# Altium schematic symbol library SuperLib.SchLib: 28 symbols
Pins are listed as number, name and electrical type; pins without a type are passive.

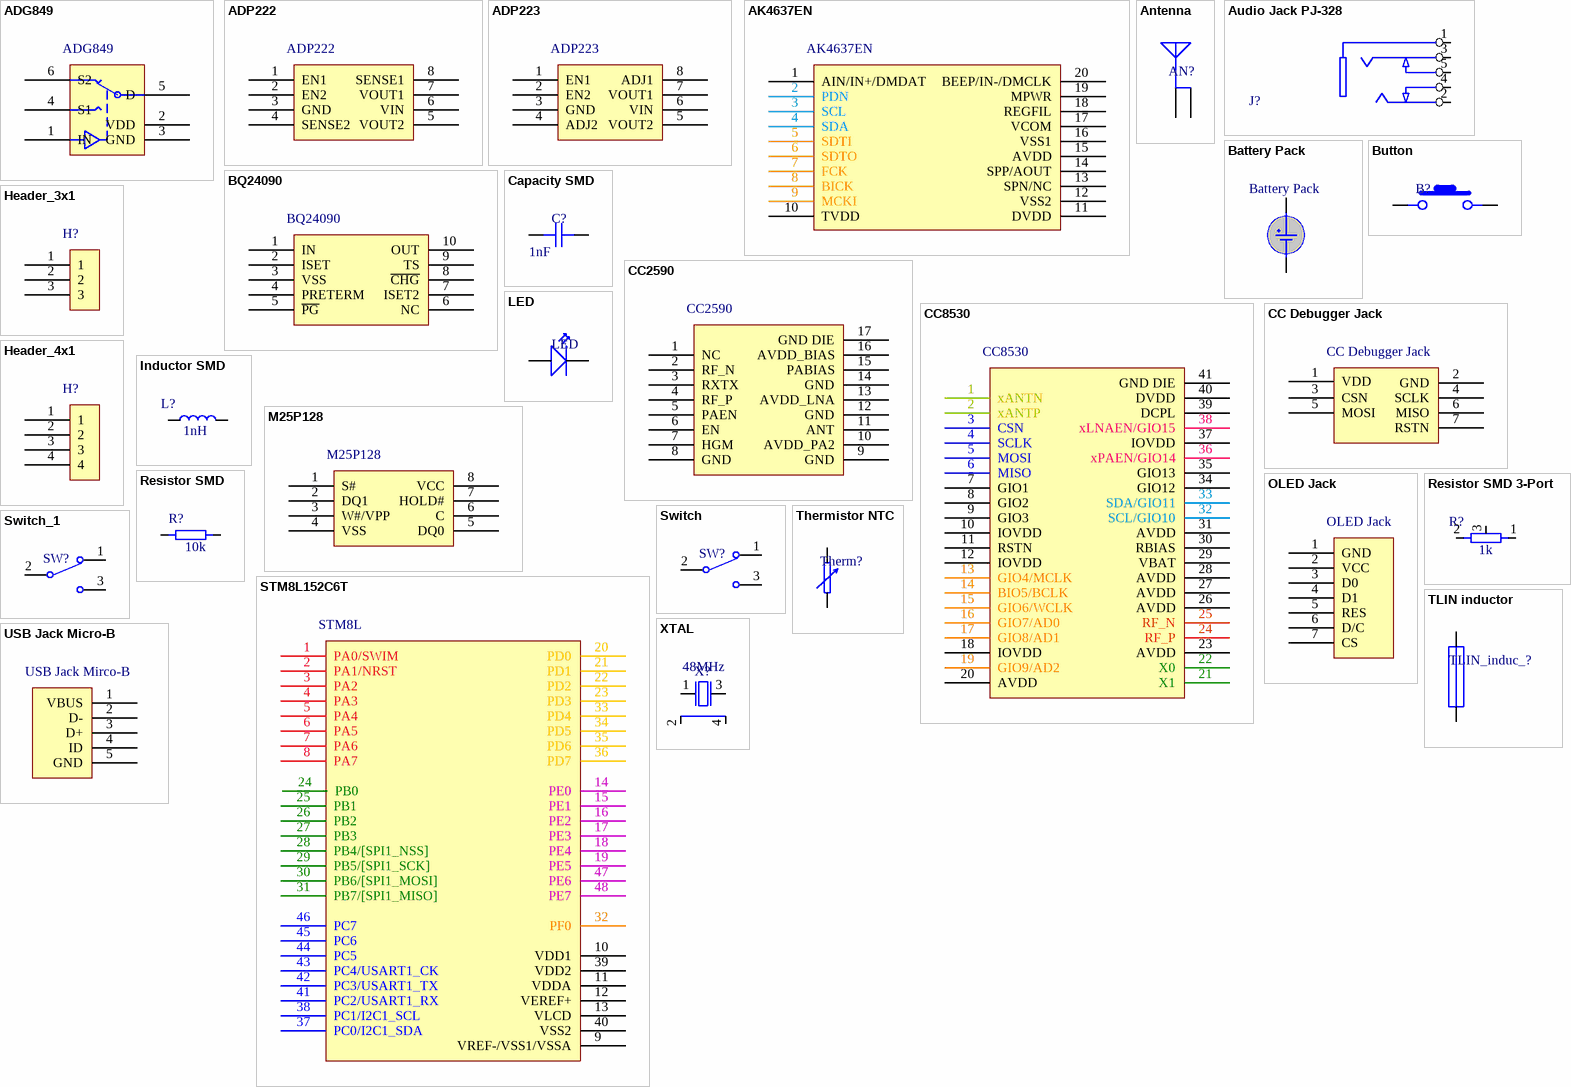
[diagram p0: symbols ADG849 to XTAL]

## ADG849
designator ADG849  (value not drawn)
FootPrint: 6-Pin SC70
footprint ADG849
pins: 1 IN, 2 VDD, 3 GND, 4 S1, 5 D, 6 S2

## ADP222
designator ADP222, comment ADP222ACPZ-1833-R7  (value not drawn)
FootPrint: 8-Pin LFCSP
footprint ADP22x
pins: 1 EN1, 2 EN2, 3 GND, 4 SENSE2, 5 VOUT2, 6 VIN, 7 VOUT1, 8 SENSE1

## ADP223
designator ADP223  (value not drawn)
FootPrint: 8-Pin LFCSP
footprint ADP22x
pins: 1 EN1, 2 EN2, 3 GND, 4 ADJ2, 5 VOUT2, 6 VIN, 7 VOUT1, 8 ADJ1

## AK4637EN
designator AK4637EN  (value not drawn)
FootPrint: 20-pin QFN
footprint AK4637EN
pins: 1 AIN/IN+/DMDAT, 2 PDN, 3 SCL, 4 SDA, 5 SDTI, 6 SDTO, 7 FCK, 8 BICK, 9 MCKI, 10 TVDD, 11 DVDD, 12 VSS2, 13 SPN/NC, 14 SPP/AOUT, 15 AVDD, 16 VSS1, 17 VCOM, 18 REGFIL, 19 MPWR, 20 BEEP/IN-/DMCLK

## Antenna
designator AN?  (value not drawn)
footprint Antenna SMA-KE
footprint ANT_WIGGLE_1MM
pins: 1, 2

## Audio Jack PJ-328
designator J?, comment Audio Jack  (value not drawn)
Type: PJ-328
footprint Audio Jack PJ-328
footprint Audio Jack PJ-328_Mono
pins: 1 GND, 2 RIGHT, 3 LEFT, 4 RIGHT SW, 5 LEFT SW

## Battery Pack
designator Battery Pack  (value not drawn)
FootPrint: 2.54mm
footprint Battery Jack
footprint Battery Jack small
pins: 1, 2

## BQ24090
designator BQ24090  (value not drawn)
FootPrint: 10-Pin MSOP
footprint BQ24090
pins: 1 IN, 2 ISET, 3 VSS, 4 PRETERM, 5 ~{PG}, 6 NC, 7 ISET2, 8 ~{CHG}, 9 TS, 10 OUT

## Button
designator B?  (value not drawn)
footprint Button
footprint Button_3x4
pins: 1, 2

## Capacity SMD
designator C?  value 1nF  (hidden comment: Capacity SMD)
footprint SMD 0603
footprint SMD 0805
footprint SMD 0402
pins: 1, 2

## CC2590
designator CC2590  (value not drawn)
FootPrint: 16-Pin QFN
footprint CC2590
pins: 1 NC, 2 RF_N, 3 RXTX, 4 RF_P, 5 PAEN, 6 EN, 7 HGM, 8 GND, 9 GND, 10 AVDD_PA2, 11 ANT, 12 GND, 13 AVDD_LNA, 14 GND, 15 PABIAS, 16 AVDD_BIAS, 17 GND DIE

## CC8530
designator CC8530  (value not drawn)
FootPrint: 40-Pin QFN
footprint CC8530
pins: 1 xANTN, 2 xANTP, 3 CSN, 4 SCLK, 5 MOSI, 6 MISO, 7 GIO1, 8 GIO2, 9 GIO3, 10 IOVDD, 11 RSTN, 12 IOVDD, 13 GIO4/MCLK, 14 BIO5/BCLK, 15 GIO6/WCLK, 16 GIO7/AD0, 17 GIO8/AD1, 18 IOVDD, 19 GIO9/AD2, 20 AVDD, 21 X1, 22 X0, 23 AVDD, 24 RF_P, 25 RF_N, 26 AVDD, 27 AVDD, 28 AVDD, 29 VBAT, 30 RBIAS, 31 AVDD, 32 SCL/GIO10, 33 SDA/GIO11, 34 GIO12, 35 GIO13, 36 xPAEN/GIO14, 37 IOVDD, 38 xLNAEN/GIO15, 39 DCPL, 40 DVDD, 41 GND DIE

## CC Debugger Jack
designator CC Debugger Jack  (value not drawn)
footprint Header 7x1
pins: 1 VDD, 2 GND, 3 CSN, 4 SCLK, 5 MOSI, 6 MISO, 7 RSTN

## Header_3x1
designator H?  (value not drawn)
footprint HEADER_3x1_2.54
pins: 1, 2, 3

## Header_4x1
designator H?  (value not drawn)
footprint Header_4x1_2.54
pins: 1, 2, 3, 4

## Inductor SMD
designator L?  value 1nH  (hidden comment: Inductor SMD)
footprint SMD 0603
footprint SMD 0805
footprint SMD 0402
pins: 1, 2

## LED
designator LED  (value not drawn)
footprint LED_0603
pins: 1, 2

## M25P128
designator M25P128  (value not drawn)
FootPrint: VFDFPN8
footprint M25P128
pins: 1 S#, 2 DQ1, 3 W#/VPP, 4 VSS, 5 DQ0, 6 C, 7 HOLD#, 8 VCC

## OLED Jack
designator OLED Jack  (value not drawn)
FootPrint: header 7x1 2.54mm
footprint OLED Jack
pins: 1 GND, 2 VCC, 3 D0, 4 D1, 5 RES, 6 D/C, 7 CS

## Resistor SMD
designator R?  value 10k  (hidden comment: Resistor SMD)
footprint SMD 0603
footprint SMD 0805
footprint SMD 0402
pins: 1, 2

## Resistor SMD 3-Port
designator R?, comment value 1k  (hidden comment: RES SMD 3-Port)
pins: 1, 2, 3

## STM8L152C6T
designator STM8L  (value not drawn)
FootPrint: 48-Pin LQPF
footprint STM LQFP48 (48-Pin LQFP)
pins: 1 PA0/SWIM, 2 PA1/NRST, 3 PA2, 4 PA3, 5 PA4, 6 PA5, 7 PA6, 8 PA7, 9 VREF-/VSS1/VSSA, 10 VDD1, 11 VDDA, 12 VEREF+, 13 VLCD, 14 PE0, 15 PE1, 16 PE2, 17 PE3, 18 PE4, 19 PE5, 20 PD0, 21 PD1, 22 PD2, 23 PD3, 24 PB0, 25 PB1, 26 PB2, 27 PB3, 28 PB4/[SPI1_NSS], 29 PB5/[SPI1_SCK], 30 PB6/[SPI1_MOSI], 31 PB7/[SPI1_MISO], 32 PF0, 33 PD4, 34 PD5, 35 PD6, 36 PD7, 37 PC0/I2C1_SDA, 38 PC1/I2C1_SCL, 39 VDD2, 40 VSS2, 41 PC2/USART1_RX, 42 PC3/USART1_TX, 43 PC4/USART1_CK, 44 PC5, 45 PC6, 46 PC7, 47 PE6, 48 PE7

## Switch
designator SW?  (value not drawn)
footprint Switch 2P2T
pins: 1, 2, 3

## Switch_1
designator SW?  (value not drawn)
footprint Switch 1P2T
pins: 1, 2, 3

## Thermistor NTC
designator Therm?, comment Thermistor  (value not drawn)
Value: 10k; type: NTC
footprint Header_2x1_2.00
pins: 1, 2

## TLIN inductor
designator TLIN_induc_?, comment for CC2590 AVDD  (value not drawn)
pins: 1, 2

## USB Jack Micro-B
designator USB Jack Mirco-B, comment USB Jack Mirco-B  (value not drawn)
footprint USB Micro-B
pins: 1 VBUS, 2 D-, 3 D+, 4 ID, 5 GND

## XTAL
designator X?  value 48MHz  (hidden comment: XTAL)
Part Number: FA-128, 48.00000MHz; Footprint: BT-XTAL_3225
footprint xtal_3225_FA-128
pins: 1 inp, 2 GND hidden to GND, 2, 3 out, 4 GND hidden to GND, 4